# Altium footprint library CommunicationLib.PcbLib: 4 footprints
Each footprint in its own frame and in the unit in brackets; x right, y up, seen from the top. Pads: shape width x height; smd on the part's side, far side on the other; paste and mask are expansions set on the pad; w line width, h text height; cw(c..) or ccw(c..) is an arc to the next point about the centre after c.
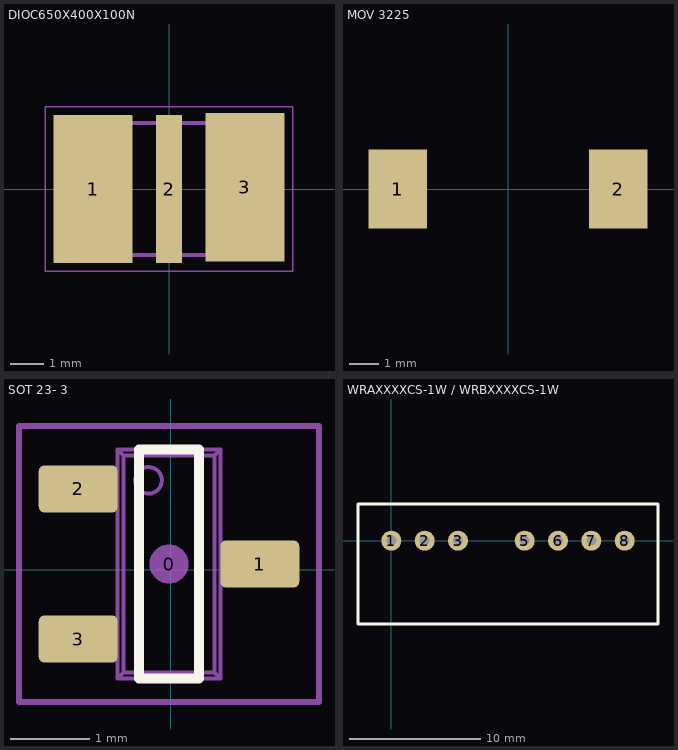
[diagram p0: the footprints below, top view; thin cyan lines are the x and y axes]

## DIOC650X400X100N [mm]
pads (3):
  rect 2.4x4.5 smd: 1(-2.3,0) 3(2.3,0.05)
  rect 0.8x4.5 smd: 2(0,0)
Top Paste:
  region: -2.934,1.675 -1.125,1.675 -1.125,-1.68 -2.934,-1.68
  region: -0.376,1.675 0.375,1.675 0.375,-1.677 -0.376,-1.677
  region: 1.128,1.675 2.925,1.675 2.925,-1.68 1.128,-1.68
Top Solder:
  region: 1.102,1.7 2.95,1.7 2.95,-1.703 1.102,-1.703
  region: -2.953,1.7 -1.1,1.7 -1.1,-1.702 -2.953,-1.702
  region: -0.4,1.7 0.4,1.7 0.4,-1.701 -0.4,-1.701
Mechanical 1:
  lines w0.05: -3.75,-2.5 -3.75,2.5 3.75,2.5 3.75,-2.5 -3.75,-2.5
  lines w0.127: -3.25,-2 -3.25,2 3.25,2 3.25,-2 -3.25,-2
3D body "TBU A6520.STEP": height 1.05, standoff 0, extent -3.25,-2 3.25,2

## MOV 3225 [mm] "B72650M0171K072  CU Series Metal OxideVaristor 75pF 5A, Clamping 455V, Varistor 270V 3225 Case"
height 2
pads (2):
  rect 2x2.7 smd: 1(-3.75,0) 2(3.75,0)
3D body "SMD 3225.STEP": height 3.53, standoff -0.02, extent -4,-3.15 4,3.15

## SOT 23- 3 [mm]
pads (4):
  round 0.5 on Mech15: 0(-0.025,0.07)
  rrect25% 1x0.6 smd: 1(1.125,0.07) 2(-1.175,1.02) 3(-1.175,-0.88)
Top Overlay:
  lines w0.127: -0.406,-1.38 -0.406,1.52 0.356,1.52 0.356,-1.38 -0.406,-1.38
Mechanical 13:
  circle w0.05: c-0.285,1.13 r0.169
  lines w0.05: -1.215,-1.12 -1.215,-0.64 ; -1.215,0.78 -1.215,1.26 ; -1.124,-1.12 -1.124,-0.64 ; -1.124,0.78 -1.124,1.26 ; -1.099,-1.12 -1.099,-0.64 ; -1.099,0.78 -1.099,1.26 ; -0.85,-1.12 -0.85,-0.64 ; -0.85,0.78 -0.85,1.26 ; -0.675,-1.12 -1.425,-1.12 -1.425,-0.64 -0.675,-0.64 ; -0.675,0.78 -1.425,0.78 -1.425,1.26 -0.675,1.26 ; 0.625,-0.17 1.375,-0.17 1.375,0.31 0.625,0.31 ; 0.8,-0.17 0.8,0.31 ; 1.049,-0.17 1.049,0.31 ; 1.074,-0.17 1.074,0.31 ; 1.165,-0.17 1.165,0.31 ; -0.675,-1.38 0.625,-1.38 ; -0.675,-1.38 -0.675,1.52 ; -0.675,-1.38 -0.601,-1.306 ; -0.675,1.52 -0.601,1.446 ; -0.675,1.52 0.625,1.52 ; -0.601,-1.306 0.551,-1.306 ; -0.601,-1.306 -0.601,1.446 ; -0.601,1.446 0.551,1.446 ; 0.551,-1.306 0.625,-1.38 ; 0.551,-1.306 0.551,1.446 ; 0.551,1.446 0.625,1.52 ; 0.625,-1.38 0.625,1.52
Mechanical 15:
  lines w0.076: -1.925,-1.68 -1.925,1.82 1.875,1.82 1.875,-1.68 -1.925,-1.68
3D body "SOT23-3.STEP": height 1.29, standoff -0.01, extent -1.425,-1.38 1.375,1.52

## WRAXXXXCS-1W / WRBXXXXCS-1W [mil]
pads (7):
  round 60 hole 30: 1(0,0) 2(100,0) 3(200,0) 5(400,0) 6(500,0) 7(600,0) 8(700,0)
Top Overlay:
  lines w10: -100,-250 800,-250 800,110.24 -100,110.24 -100,-250
3D body: height 472.44, standoff 0, extent -90.55,-240.16 791.34,102.36